# Altium schematic symbol library SCH - POWER - MODULE - TI- TPS54260QDGQRQ1.SCHLIB: 1 symbol
Pins are listed as number, name and electrical type; pins without a type are passive.

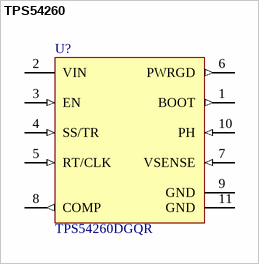
[diagram p0: symbol TPS54260]

## TPS54260
designator U?, comment TPS54260DGQR
footprint TSSOP50P490X110-11N-TI-DGQ
pins: 1 BOOT (out), 2 VIN (power), 3 EN (in), 4 SS/TR (in), 5 RT/CLK (in), 6 PWRGD (out), 7 VSENSE (in), 8 COMP (out), 9 GND (power), 10 PH (in), 11 GND (power)